# Altium schematic symbol library RES_68.SCHLIB: 1 symbol
Pins are listed as number, name and electrical type; pins without a type are passive.

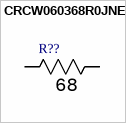
[diagram p0: symbol CRCW060368R0JNEA]

## CRCW060368R0JNEA
designator R??  value 68
RES SMD 68 OHM 5% 1/10W 0603; Manufacturer_Part_Number: CRCW060368R0JNEA; Built_By: EMA_UL_Team; C: Copyright (C) 2015 Accelerated Designs. All rights reserved; Vendor: Vishay; RefDes: RefDes; Type: DEV
footprint RESC1609X50X30ML10T20
pins: 1, 2